# Altium schematic symbol library Switches.SchLib: 8 symbols
Pins are listed as number, name and electrical type; pins without a type are passive.

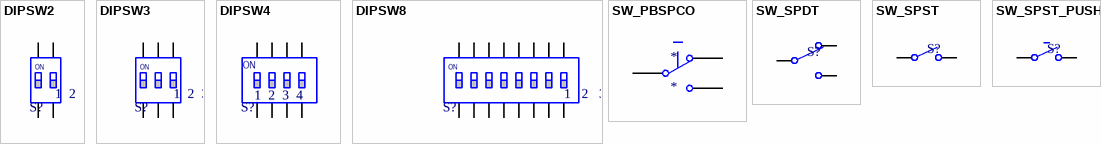
[diagram p0: symbols DIPSW2 to SW_SPST_PUSH]

## DIPSW2
designator S?
pins: 1 A1, 2 A2, 3 B2, 4 B1
text: ON; 1  2

## DIPSW3
designator S?
pins: 1 A1, 2 A2, 3 A2, 4 B2, 5 B2, 6 B1
text: ON; 1  2  3

## DIPSW4
designator S?
pins: 1 A1, 2 A2, 3 A3, 4 A4, 5 B4, 6 B3, 7 B2, 8 B1
text: ON; 1  2  3  4

## DIPSW8
designator S?
pins: 1 A1, 2 A2, 3 A3, 4 A4, 5 A5, 6 A6, 7 A7, 8 A8, 9 B8, 10 B7, 11 B6, 12 B5, 13 B4, 14 B3, 15 B2, 16 B1
text: ON; 1   2   3  4   5  6  7  8

## SW_PBSPCO
designator *
pins: COM1 COM, NC1 NC, NO1 NO

## SW_SPDT
designator S?
pins: COM1 COMMON, NC1 NC, NO1 NO

## SW_SPST
designator S?
pins: COM1 COMMON, NO1 NO

## SW_SPST_PUSH
designator S?
pins: COM COMMON, NO Normally Open